# Altium schematic symbol library 一体机V5.SCHLIB: 70 symbols (part 1 of 2)
Pins are listed as number, name and electrical type; pins without a type are passive.

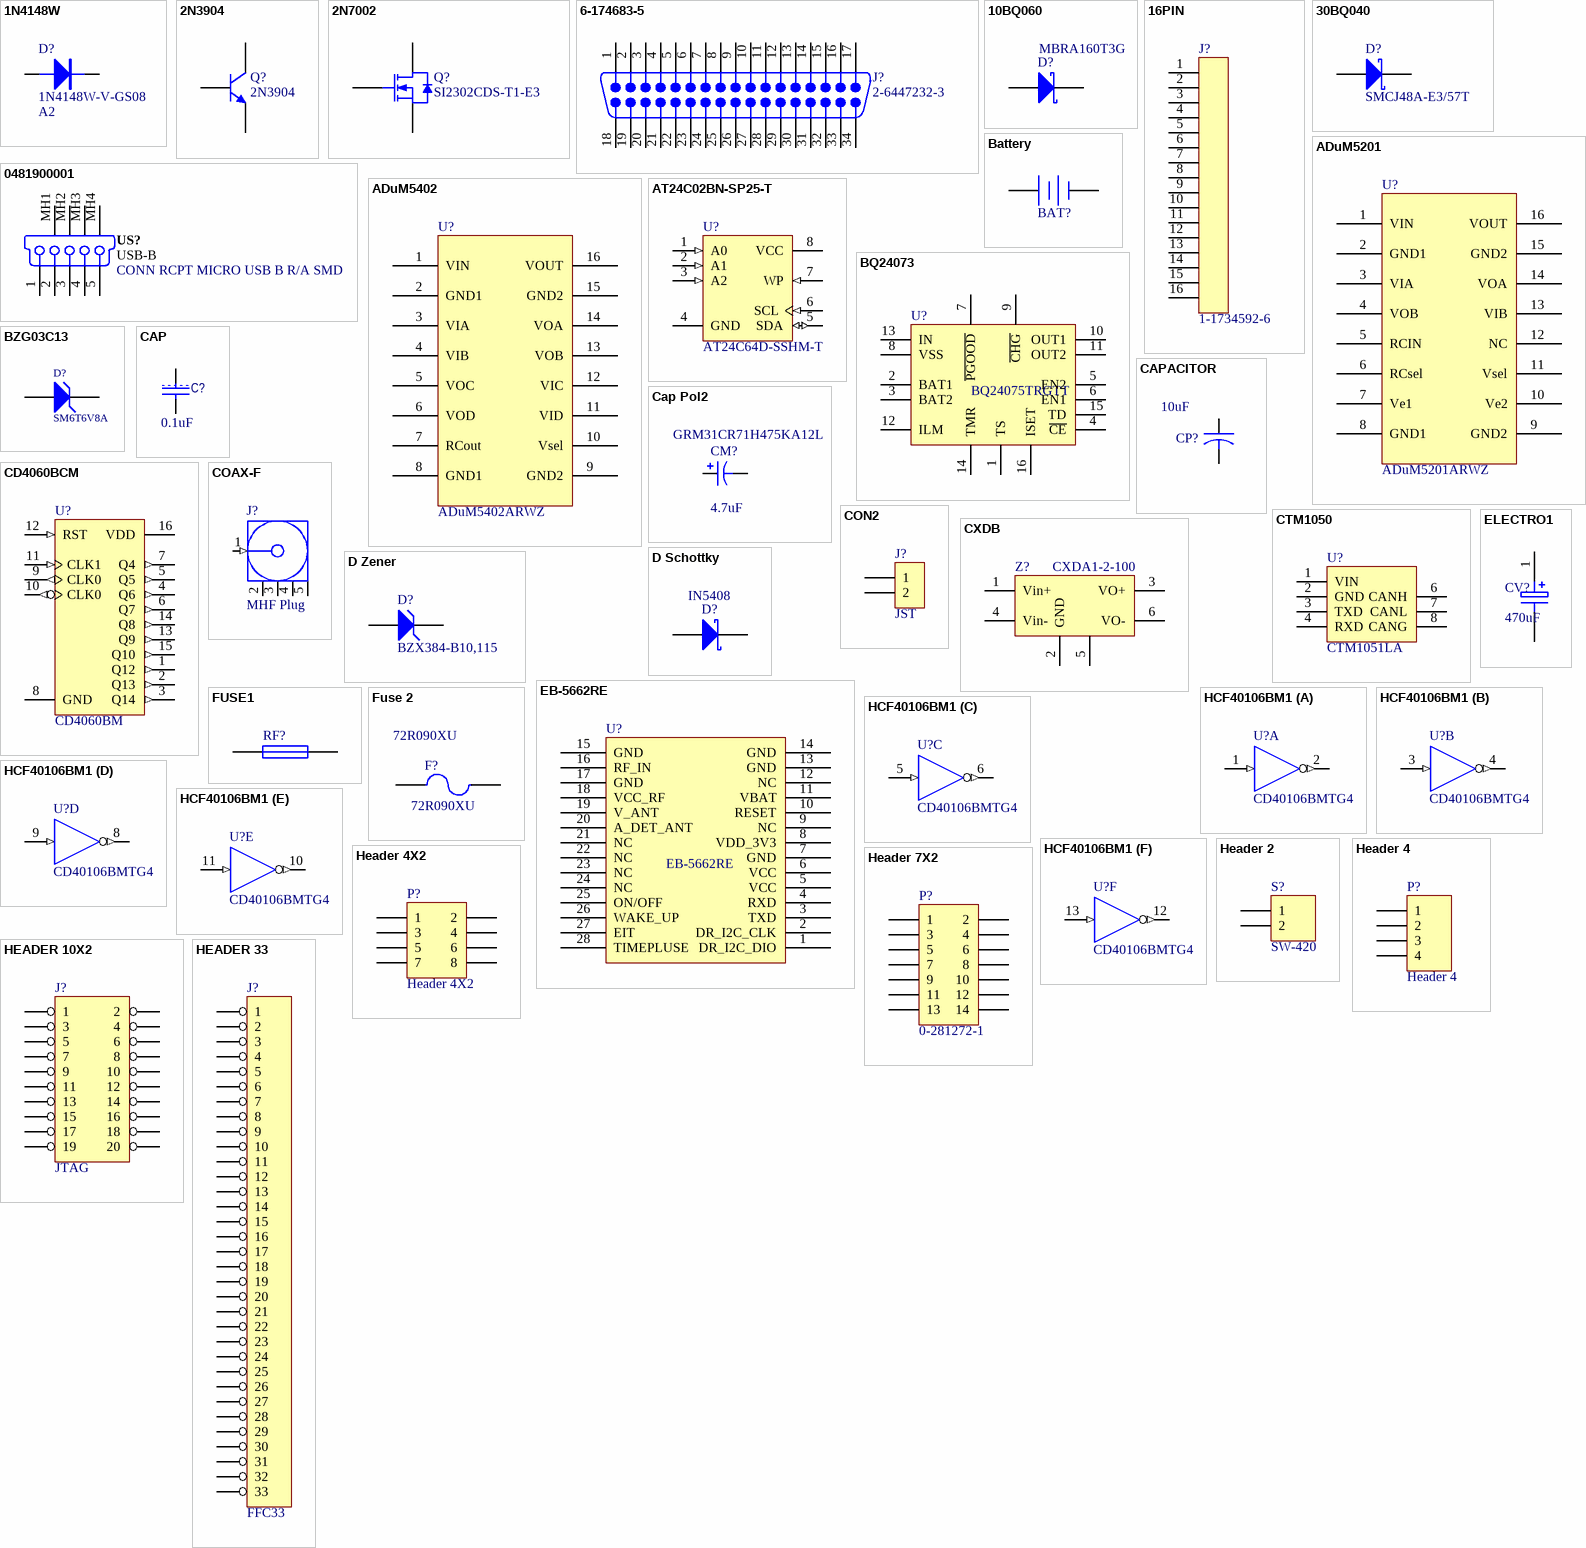
[diagram p0: symbols 1N4148W to HEADER 33]

## 1N4148W
designator D?, comment 1N4148W-V-GS08  value A2
二极管 - 通用，功率，开关 100V Io/150mA; Manufacturer: Vishay Semiconductors; 配置: Single; 工作温度范围: - 65 C to + 150 C; 封装 / 箱体: SOD-123; 封装: Reel; 产品: Switching Diodes; 正向连续电流: 0.15 A; 最大浪涌电流: 0.5 A; 安装风格: SMD/SMT; 恢复时间: 4 ns; 正向电压下降: 1.2 V; 制造商: Vishay; 最大二极管电容: 4 pF; 最大工作温度: + 150 C; 最大功率耗散: 350 mW; 最大反向漏泄电流: 5 uA; 最小工作温度: - 65 C; 标准包装数量: 15000; Supplier 1: Mouser; Supplier Part Number 1: 625-1N4148W-V; Manufacturer Part Number: 1N4148W-V-GS08; RoHS: RoHS Compliant; Category: 二极管 - 通用，功率，开关; Stock 1: 404148; Pricing 1: 1=0.090, 10=0.083, 50=0.072, 100=0.068, 500=0.032, 1000=0.026, 3000=0.021, 9000=0.016, 10000=0.016, 18000=0.014 (USD); 峰值反向电压: 100 V; 产品种类: Switching Diodes; RoHS - 贸泽: Y; Minimum Order Quantity: 1; Reeling: True; ComponentLink1URL: http://www.mouser.com/ds/2/427/1n4148w--240387.pdf; ComponentLink1Description: http://www.mouser.com/ds/2/427/1n4148w--240387.pdf; Description 1: 二极管 - 通用，功率，开关 100V Io/150mA
footprint SOD323 (SOD-323/SC-76; 2 Leads; Body 1.7 x 1.3 mm, (LxW))
simulation model 1N4148 (Model Description)
signal-integrity model 1N4148 (Model Description)
pins: 1 A, 2 K
2 alternate drawings of the same symbol

## 2N3904
designator Q?
NPN General Purpose Amplifier; Published: 8-Jun-2000; LatestRevisionDate: 15-Jan-2003; LatestRevisionNote: PCB Footprint 'BCY-W3/D4.7' replaced; DatasheetVersion: 1997; PackageVersion: Sep-1998; PackageReference: TO-92A; Publisher: Altium Limited; PackageDescription: TO, Flat Index; 3 In-Line, Axial Leads; Body Dia. 4.5mm; Leads 0.51 x 0.48 mm (max); ComponentLink1Description: Manufacturer Link; ComponentLink1URL: http://www.fairchildsemi.com/; ComponentLink2Description: Datasheet; ComponentLink2URL: http://www.fairchildsemi.com/ds/2N%2F2N3904.pdf
footprint SOT23_N (SOT23, 3-Leads, Body 2.9x1.3mm, Pitch 0.95mm, Lead Span 2.3mm, IPC Medium Density)
simulation model 2N3904 (NPN)
signal-integrity model 2N3904
pins: 1 E, 2 B, 3 C

## 2N7002
designator Q?, comment SI2302CDS-T1-E3
MOSFET 20V 2.9A 0.86W 57mohm @ 4.5V; Manufacturer: Vishay / Siliconix; 配置: Single; 封装 / 箱体: SOT-23-3; 封装: Reel; 漏极连续电流: 2.6 A; 闸/源击穿电压: +/- 8 V; 安装风格: SMD/SMT; 功率耗散: 710 mW; 电阻汲极/源极 RDS（导通）: 0.057 Ohms; 晶体管极性: N-Channel; 下降时间: 7 ns; 制造商: Vishay; 最大工作温度: + 150 C; 最小工作温度: - 55 C; 产品种类: N-Channel MOSFETs; 标准包装数量: 3000; 典型关闭延迟时间: 30 ns; Supplier 1: Mouser; Supplier Part Number 1: 781-SI2302CDS-E3; Manufacturer Part Number: SI2302CDS-T1-E3; RoHS: RoHS Compliant; Description 1: MOSFET 20V 2.9A 0.86W 57mohm @ 4.5V; Category: MOSFET; Stock 1: 51301; Pricing 1: 1=0.150, 10=0.140, 100=0.130, 250=0.125, 500=0.120, 1000=0.115, 3000=0.110, 6000=0.105, 12000=0.100 (USD); 汲极/源极击穿电压: 20 V; 上升时间: 7 ns; RoHS - 贸泽: Y; Minimum Order Quantity: 1; Reeling: True; ComponentLink1URL: http://www.vishay.com/doc?68645; ComponentLink1Description: http://www.vishay.com/doc?68645
footprint SOT23_N (SOT23, 3-Leads, Body 2.9x1.3mm, Pitch 0.95mm, Lead Span 2.3mm, IPC Medium Density)
simulation model 2N7002 (SUBCKT)
pins: 1 G, 2 S, 3 D

## 6-174683-5
designator J?, comment 2-6447232-3
插针 汽车连接器 SUPER SEAL 34POS CAP ASY V AU; Manufacturer: TE Connectivity; 位置数量: 34; 产品: Housings; 标准包装数量: 14; Supplier 1: Mouser; Supplier Part Number 1: 571-2-6447232-3; Manufacturer Part Number: 2-6447232-3; RoHS: RoHS Compliant; Description 1: 汽车连接器 SUPER SEAL 34POS CAP ASY V AU; Category: 汽车连接器; Stock 1: 0; Pricing 1: 996=13.16 (USD); 系列: Super Seal; 制造商: TE Connectivity; RoHS - 贸泽: Y; Minimum Order Quantity: 996; Reeling: False; ComponentLink1URL: http://www.te.com/catalog/pn/en/2-6447232-3?RQPN=2-6447232-3; ComponentLink1Description: http://www.te.com/catalog/pn/en/2-6447232-3?RQPN=2-6447232-3
signal-integrity model D Subminiature
footprint 2-6447232-3
pins: 1, 2, 3, 4, 5, 6, 7, 8, 9, 10, 11, 12, 13, 14, 15, 16, 17, 18, 19, 20, 21, 22, 23, 24, 25, 26, 27, 28, 29, 30, 31, 32, 33, 34

## 10BQ060
designator D?, comment MBRA160T3G
肖特基二极管与整流器 60 Volt 1.0 A; Manufacturer: ON Semiconductor; Configuration: Single; Forward Continuous Current: 2.1 A; Max Surge Current: 60 A; Forward Voltage Drop: 0.51 V at 1 A; Maximum Reverse Leakage Current: 200 uA; Peak Reverse Voltage: 60 V; Supplier 1: Mouser; Supplier Part Number 1: 863-MBRA160T3G; Manufacturer Part Number: MBRA160T3G; RoHS: RoHS Compliant; Category: Schottky Diodes & Rectifiers; Stock 1: 21130; Pricing 1: 1=0.756, 10=0.502, 100=0.281, 1000=0.211, 5000=0.181, 10000=0.170, 25000=0.155, 50000=0.150, 100000=0.144 (AUD); Operating Temperature Range: - 55 C to + 125 C; Package / Case: SMA; Packaging: Reel; Product: Schottky Diodes; Mounting Style: SMD/SMT; Product Category: Diodes- Schottky; Standard Pack Qty: 5000; RoHS - Mouser: Y; Minimum Order Quantity: 1; Reeling: True; ComponentLink1URL: http://www.mouser.com/ds/2/308/MBRA160T3-D-95572.pdf; ComponentLink1Description: http://www.mouser.com/ds/2/308/MBRA160T3-D-95572.pdf
simulation model 10BQ060 (DIODE)
signal-integrity model 10BQ060
footprint DO-214AC/SMA (DO-214-AC/SMA; 2 C-Bend Leads; Body 5 x 2.7 mm, inc. leads (LxW))
pins: 1 A, 2 K

## 16PIN
designator J?, comment 1-1734592-6
TE CONNECTIVITY / AMP - 1-1734592-6 - FFC/FPC CONNECTOR, RECEPTACLE 16POS 1ROW; Pitch Spacing: 0.5; No. of Contacts: 16; No. of Rows: 1; FFC / FPC Thickness: 0.3; Contact Termination: Surface Mount Right Angle; Supplier 1: Newark; Supplier Part Number 1: 16R9533; Manufacturer: TE CONNECTIVITY / AMP; Manufacturer Part Number: 1-1734592-6; RoHS: YES; Description 1: TE CONNECTIVITY / AMP - 1-1734592-6 - FFC/FPC CONNECTOR, RECEPTACLE 16POS 1ROW; Stock 1: 219; Pricing 1: 1=0.383, 25=0.383, 50=0.383, 100=0.328, 500=0.328, 1000=0.328, 2500=0.297 (USD); Series: -; Gender: Receptacle; Contact Plating: Gold; ComponentLink1URL: http://www.tycoelectronics.com/commerce/DocumentDelivery/DDEController?Action=srchrtrv&DocNm=1-1773440-6&DocType=Data+Sheet&DocLang=English; ComponentLink1Description: http://www.tycoelectronics.com/commerce/DocumentDelivery/DDEController?Action=srchrtrv&DocNm=1-1773440-6&DocType=Data+Sheet&DocLang=English; ComponentLink2URL: http://www.farnell.com/cad/1650059.pdf; ComponentLink2Description: http://www.farnell.com/cad/1650059.pdf; ComponentLink3URL: http://www.farnell.com/datasheets/1665333.pdf; ComponentLink3Description: http://www.farnell.com/datasheets/1665333.pdf
footprint FFC/SM0.5-2H16
pins: 1, 2, 3, 4, 5, 6, 7, 8, 9, 10, 11, 12, 13, 14, 15, 16

## 30BQ040
designator D?, comment SMCJ48A-E3/57T
TVS 二极管 - 瞬态电压抑制器 1500W 48V Unidirect; Manufacturer: Vishay Semiconductors; 击穿电压: 53.3 V to 58.9 V; 钳位电压: 77.4 V; 尺寸: 6.22 mm W x 7.11 mm L x 2.62 mm H; 封装 / 箱体: DO-214AB; 封装: Reel; 系列: SMCJ; 端接类型: SMD/SMT; 通道: 1 Channel; 峰值浪涌电流: 19.4 A; 制造商: Vishay; 最大工作温度: + 150 C; 最小工作温度: - 55 C; 极性: Unidirectional; 产品种类: Transient Voltage Suppressors; 标准包装数量: 850; 商标名: TransZorb; Supplier 1: Mouser; Supplier Part Number 1: 625-SMCJ48A-E3; Manufacturer Part Number: SMCJ48A-E3/57T; RoHS: RoHS Compliant By Exemption; Description 1: TVS 二极管 - 瞬态电压抑制器 1500W 48V Unidirect; Category: TVS 二极管 - 瞬态电压抑制器; Stock 1: 1923; Pricing 1: 1=0.670, 10=0.580, 100=0.457, 850=0.457, 1000=0.244, 5000=0.206, 10000=0.198, 25000=0.125, 50000=0.122, 100000=0.120 (USD); 工作电压: 48 V; 安装风格: SMD/SMT; 峰值脉冲功率耗散: 1500 W; RoHS - 贸泽: E; Minimum Order Quantity: 1; Reeling: True; ComponentLink1URL: http://www.mouser.com/ds/2/427/smcj50a-241829.pdf; ComponentLink1Description: http://www.mouser.com/ds/2/427/smcj50a-241829.pdf
signal-integrity model 30BQ040
footprint DO-214AB/SMC (DO-214-AB/SMC; 2 C-Bend Leads; Body 7.9 x 5.9 mm, inc. leads (LxW))
pins: 1 A, 2 K

## 0481900001
designator US?, comment USB-B  Description 1: CONN RCPT MICRO USB B R/A SMD
USB On-The-Go (OTG) Mini-B Receptacle, Right Angle, SMT, 0.80mm (.031") Pitch, Solder Tabs with Back Cover, Recessed Type; Manufacturer: TE Connectivity; Manufacturer Part Number: 1981568-1; Max Current: mA; Number of Contacts: 5; Specifications: USB 1.0; Connector type: Right Angle; Mounting Technology: Surface Mount; Status: Unreleased; Category: Connector; Supplier 1: Digi-Key; Supplier Part Number 1: A97800TR-ND; RoHS: RoHS Compliant; Stock 1: 12000; Pricing 1: 1000=0.9108, 2000=0.88044, 3000=0.85008, 5000=0.80758, 10000=0.78936 (USD); Packaging: Tape & Reel (TR); Gender: Receptacle; Mounting Type: Surface Mount, Right Angle, Horizontal; Features: -; Ingress Protection: -; ComponentLink1URL: http://www.te.com/commerce/DocumentDelivery/DDEController?Action=srchrtrv&DocNm=1981568&DocType=Customer+Drawing&DocLang=English; ComponentLink1Description: http://www.te.com/commerce/DocumentDelivery/DDEController?Action=srchrtrv&DocNm=1981568&DocType=Customer+Drawing&DocLang=English
footprint USB/SM0.8-6H5 (Connector; USB2.0, Type B, SM; 5 Position; Right Angle)
pins: 1, 2, 3, 4, 5, MH1, MH2, MH3, MH4

## ADuM5201
designator U?, comment ADuM5201ARWZ
隔离器接口集成电路 Dual-CH w/ Intg DC/DC Converter; Manufacturer: Analog Devices; 封装 / 箱体: SOIC-16; 封装: Tube; 安装风格: SMD/SMT; 通道数量: 2; 线路数量（输入/输出）: 1 /; 制造商: Analog Devices Inc.; 最大工作温度: + 105 C; 最小工作温度: - 40 C; 传播延迟时间: 60 ns; 标准包装数量: 47; 电源电压-最大: 5.5 V; 电源电压-最小: 3 V; Product Status: New at Mouser; Supplier 1: Mouser; Supplier Part Number 1: 584-ADUM5201ARWZ; Manufacturer Part Number: ADUM5201ARWZ; RoHS: RoHS Compliant; Description 1: 隔离器接口集成电路 Dual-CH w/ Intg DC/DC Converter; Category: 隔离器接口集成电路; Stock 1: 213; Pricing 1: 1=9.20, 10=8.28, 25=7.54, 50=7.03, 100=6.80, 250=6.25, 500=5.70, 1000=4.96 (USD); RoHS - 贸泽: Y; Minimum Order Quantity: 1; Reeling: False; ComponentLink1URL: http://www.analog.com/static/imported-files/data_sheets/ADuM5200_5201_5202.pdf; ComponentLink1Description: http://www.analog.com/static/imported-files/data_sheets/ADuM5200_5201_5202.pdf
footprint SOIC16W_N (SOIC, 16-Leads, Body 10.3x7.5mm, Pitch 1.27mm, IPC Low Density)
pins: 1 VIN, 2 GND1, 3 VIA, 4 VOB, 5 RCIN, 6 RCsel, 7 Ve1, 8 GND1, 9 GND2, 10 Ve2, 11 Vsel, 12 NC, 13 VIB, 14 VOA, 15 GND2, 16 VOUT

## ADuM5402
designator U?, comment ADuM5402ARWZ
隔离器接口集成电路 Quad-CH w/ Intg DC/DC Converter; Manufacturer: Analog Devices; 封装 / 箱体: SOIC-16; 封装: Tube; 安装风格: SMD/SMT; 通道数量: 4; 线路数量（输入/输出）: 2 /; 功率耗散: 500 mW; 制造商: Analog Devices Inc.; 最大工作温度: + 105 C; 最小工作温度: - 40 C; 传播延迟时间: 60 ns; 标准包装数量: 47; 电源电压-最大: 5.5 V; 电源电压-最小: 3 V; Product Status: New at Mouser; Supplier 1: Mouser; Supplier Part Number 1: 584-ADUM5402ARWZ; Manufacturer Part Number: ADUM5402ARWZ; RoHS: RoHS Compliant; Description 1: 隔离器接口集成电路 Quad-CH w/ Intg DC/DC Converter; Category: 隔离器接口集成电路; Stock 1: 188; Pricing 1: 1=10.01, 5=9.38, 10=9.10, 25=8.42, 50=7.96, 100=7.74, 250=7.05, 500=6.60, 1000=6.07 (USD); RoHS - 贸泽: Y; Minimum Order Quantity: 1; Reeling: False; ComponentLink1URL: http://www.analog.com/static/imported-files/data_sheets/ADuM5401_5402_5403_5404.pdf; ComponentLink1Description: http://www.analog.com/static/imported-files/data_sheets/ADuM5401_5402_5403_5404.pdf
footprint SOIC16W_N (SOIC, 16-Leads, Body 10.3x7.5mm, Pitch 1.27mm, IPC Low Density)
pins: 1 VIN, 2 GND1, 3 VIA, 4 VIB, 5 VOC, 6 VOD, 7 RCout, 8 GND1, 9 GND2, 10 Vsel, 11 VID, 12 VIC, 13 VOB, 14 VOA, 15 GND2, 16 VOUT

## AT24C02BN-SP25-T
designator U?, comment AT24C64D-SSHM-T
电可擦除可编程只读存储器 64K 2-WIRE 1.7V; Manufacturer: Atmel; Description 1: 电可擦除可编程只读存储器 SERIAL 电可擦除可编程只读存储器 64K 2-WIRE 1.7V; 访问时间: 550 ns; 存储容量: 64 Kbit; 组织: 8192 x 8; 封装 / 箱体: SOIC-8; 封装: Reel; 接口类型: 2-Wire Serial; 安装风格: SMD/SMT; 工作电流: 0.4 mA; 数据保留: 100 yr; 最大时钟频率: 1000 kHz; 最大工作电流: 1 mA; 最大工作温度: + 85 C; 最小工作温度: - 40 C; 工作电源电压: 1.7 V to 5.5 V; 标准包装数量: 4000; 电源电压-最大: 5.5 V; Supplier 1: Mouser; Supplier Part Number 1: 556-AT24C64D-SSHM-T; Manufacturer Part Number: AT24C64D-SSHM-T; RoHS: RoHS Compliant; Category: 电可擦除可编程只读存储器; Stock 1: 1653; Pricing 1: 1=0.580, 10=0.480, 25=0.364, 100=0.329, 1000=0.324, 4000=0.324 (USD); 制造商: Atmel; 电源电压-最小: 1.7 V; RoHS - 贸泽: Y; Minimum Order Quantity: 1; Reeling: True; ComponentLink1URL: http://www.mouser.com/ds/2/36/doc8717-54521.pdf; ComponentLink1Description: http://www.mouser.com/ds/2/36/doc8717-54521.pdf
footprint SOIC8_N (SOIC, 8-Leads, Body 4.9x3.9mm, Pitch 1.27mm, IPC Medium Density)
pins: 1 A0 (in), 2 A1 (in), 3 A2 (in), 4 GND (power), 5 SDA (io), 6 SCL (in), 7 WP (in), 8 VCC (power)

## Battery
designator BAT?, comment 18650/5000mAH/3.7V  (value not drawn)
插针 Multicell Battery
footprint BAT-2
pins: 1 +, 2 -
2 alternate drawings of the same symbol

## BQ24073
designator U?, comment BQ24075TRGTT
电池管理 1.5A USB-Friendly Li Ion Batt Charger; Manufacturer: Texas Instruments; 输出电流: 5 A; 输出电压: 5.5 V; 封装 / 箱体: QFN-16; 封装: Reel; 电荷安全定时器: Yes; 安装风格: SMD/SMT; 电池类型: Li-Ion; 最大功率耗散: 2.3 W; 工作电源电流: 1.5 mA; 工作电源电压: 4.35 V to 26 V; 产品种类: Battery Management; 产品类型: Charge Management; 标准包装数量: 250; Supplier 1: Mouser; Supplier Part Number 1: 595-BQ24075TRGTT; Manufacturer Part Number: BQ24075TRGTT; RoHS: RoHS Compliant; Description 1: 电池管理 1.5A USB-Friendly Li Ion Batt Charger; Category: 电池管理; Stock 1: 641; Pricing 1: 1=2.60, 10=2.33, 25=2.08, 50=1.96, 100=1.40, 250=1.37, 500=1.35, 750=1.32, 1000=1.30 (USD); 系列: BQ24075T; 温度监测: Yes; 制造商: Texas Instruments; RoHS - 贸泽: Y; Minimum Order Quantity: 1; Reeling: True; ComponentLink1URL: http://www.mouser.com/ds/2/405/slus937a-120341.pdf; ComponentLink1Description: http://www.mouser.com/ds/2/405/slus937a-120341.pdf
footprint BQ24073
pins: 1 TS, 2 BAT1, 3 BAT2, 4 ~{CE}, 5 EN2, 6 EN1, 7 ~{PGOOD}, 8 VSS, 9 ~{CHG}, 10 OUT1, 11 OUT2, 12 ILM, 13 IN, 14 TMR, 15 TD, 16 ISET
2 alternate drawings of the same symbol

## BZG03C13
designator D?, comment SM6T6V8A
Zener Diode, 6.2V, 5W; Manufacturer: Microsemi; Revision: 31-Oct-2003
footprint DO214
pins: 1 A, 2 K

## CAP
designator C?, comment value 0.1uF  (hidden comment: C1608X7R1H104K)
多层陶瓷电容器MLCC - SMD/SMT 0603 0.1uF 50volts X7R 10%; Manufacturer: TDK; 尺寸: 0.8 mm W x 1.6 mm L x 0.8 mm H; 工作温度范围: - 55 C to + 125 C; 封装 / 箱体: 0603 (1608 metric); 封装: Reel; 产品: General Type MLCCs; 系列: C; 电压额定值: 50 V; 电容-nF: 100 nF; 电容-pF: 100000 pF; 外壳代码 - in: 0603; 外壳代码 - mm: 1608; 产品种类: Low & Medium Capacitance SMD Ceramic Chip Capacitors; 标准包装数量: 4000; Supplier 1: Mouser; Supplier Part Number 1: 810-C1608X7R1H104K; Manufacturer Part Number: C1608X7R1H104K; RoHS: RoHS Compliant; Description 1: 多层陶瓷电容器MLCC - SMD/SMT 0603 0.1uF 50volts X7R 10%; Category: 多层陶瓷电容器MLCC - SMD/SMT; Stock 1: 224604; Pricing 1: 1=0.160, 50=0.070, 100=0.036, 500=0.019, 1000=0.013, 4000=0.010, 8000=0.009, 12000=0.008, 20000=0.007 (USD); 电容: 0.1 uF; 端接类型: SMD/SMT; 容差: 10 %; 制造商: TDK; 温度系数/代码: X7R; RoHS - 贸泽: Y; Minimum Order Quantity: 1; Reeling: True; ComponentLink1URL: http://www.tdk.com/pdf/general_B11.pdf; ComponentLink1Description: http://www.tdk.com/pdf/general_B11.pdf
simulation model CAP (Capacitor)
signal-integrity model Capacitor
footprint 1608[0603]C
pins: 1, 2

## Cap Pol2
designator CM?, comment GRM31CR71H475KA12L  value 4.7uF
多层陶瓷电容器MLCC - SMD/SMT 4.7uF 50Volts 10%; Manufacturer: Murata Electronics; 尺寸: 1.6 mm W x 3.2 mm L x 1.6 mm H; 工作温度范围: - 55 C to + 125 C; 封装 / 箱体: 1206 (3216 metric); 封装: Reel; 产品: General Type MLCCs; 系列: GRM; 电压额定值: 50 V; 电容-nF: 4700 nF; 外壳代码 - in: 1206; 外壳代码 - mm: 3216; 制造商: Murata; 标准包装数量: 2000; 温度系数/代码: X7R; Supplier 1: Mouser; Supplier Part Number 1: 81-GRM31CR71H475KA2L; Manufacturer Part Number: GRM31CR71H475KA12L; RoHS: RoHS Compliant; Description 1: 多层陶瓷电容器MLCC - SMD/SMT 4.7uF 50Volts 10%; Category: 多层陶瓷电容器MLCC - SMD/SMT; Stock 1: 57549; Pricing 1: 1=0.890, 10=0.561, 100=0.338, 1000=0.309, 2000=0.194, 10000=0.191, 24000=0.187, 50000=0.183 (USD); 电容: 4.7 uF; 端接类型: SMD/SMT; 容差: 10 %; RoHS - 贸泽: Y; Minimum Order Quantity: 1; Reeling: True; ComponentLink1URL: http://www.mouser.com/ds/2/281/product-244798.pdf; ComponentLink1Description: http://www.mouser.com/ds/2/281/product-244798.pdf
footprint 3216[1206]C
simulation model CAP (Capacitor)
signal-integrity model Cap Pol
pins: 1, 2
1 alternate drawing of the same symbol

## CAPACITOR
designator CP?, comment value 10uF  (hidden comment: TAJA106K016RNJ)
钽质电容器-固体SMD 16volts 10uF 10%; Manufacturer: AVX; ESR: 3 Ohms; 产品: Tantalum Solid Standard Grade - Other Various; 产品种类: SMD Tantalum Capacitors; 制造商库存号: A Case; 外壳代码 - in: 1206; 外壳代码 - mm: 3216; 封装 / 箱体: 1206 (3216 metric); 封装: Reel; 尺寸: 1.6 mm W x 3.2 mm L; 工作温度范围: - 55 C to + 125 C; 损耗因数 DF: 8; 标准包装数量: 2000; 漏泄电流: 1.6 uA; 电压额定值: 16 V; 端接类型: SMD/SMT; 系列: TAJ; 高度: 1.8 mm; Category: 钽质电容器-固体SMD; ComponentLink1Description: http://www.avx.com/docs/Catalogs/taj.pdf; ComponentLink1URL: http://www.avx.com/docs/Catalogs/taj.pdf; Description 1: 钽质电容器-固体SMD 16volts 10uF 10%; Manufacturer Part Number: TAJA106K016RNJ; Minimum Order Quantity: 1; Pricing 1: 1=0.600, 100=0.280, 200=0.250, 500=0.221, 1000=0.200, 2000=0.140, 5000=0.131, 10000=0.124, 25000=0.103 (USD); Reeling: True; RoHS - 贸泽: Y; RoHS: RoHS Compliant; Stock 1: 20335; Supplier 1: Mouser; Supplier Part Number 1: 581-TAJA106K016R; 制造商: AVX; 容差: 10 %; 电容: 10 uF
simulation model CAP (Default semiconductor capacitor)
signal-integrity model Tantalum Capacitors (Tantalum)
footprint 3216[1206]CB
pins: 1, 2

## CD4060BCM
designator U?, comment CD4060BM
14-Stage Ripple Carry Binary Counter; Published: 17-Jul-2002; LatestRevisionDate: 13-Apr-2006; LatestRevisionNote: IPC-7351 Footprint Added.; DatasheetVersion: Jan-1999; PackageVersion: 2000; PackageReference: M16A; Publisher: Altium Limited; PackageDescription: 16-Pin Small Outline Integrated Circuit 1.27 mm Pitch; Code_IPC: SOIC127P600-16; ComponentLink1Description: Manufacturer Link; ComponentLink1URL: http://www.fairchildsemi.com/; ComponentLink2Description: Datasheet; ComponentLink2URL: http://www.fairchildsemi.com/ds/CD%2FCD4040BC.pdf
footprint SOIC16_N (SOIC, 16-Leads, Body 9.9x3.9mm, Pitch 1.27mm, IPC Medium Density)
3D model M16A (16-Pin Small Outline Integrated Circuit 1.27 mm Pitch)
pins: 1 Q12 (out), 2 Q13 (out), 3 Q14 (out), 4 Q6 (out), 5 Q5 (out), 6 Q7 (out), 7 Q4 (out), 8 GND (power), 9 CLK0 (out), 10 CLK0 (out), 11 CLK1 (in), 12 RST (in), 13 Q9 (out), 14 Q8 (out), 15 Q10 (out), 16 VDD (power)

## COAX-F
designator J?, comment MHF Plug
插针 RF 连接器 ONBRD IPEX MHF RECEPTACLE; Manufacturer: Taoglas; Manufacturer Part Number: RECE-20279-001E-01; 触点电镀: Gold; 型式: Receptacle (Female); 方向: Right Angle; 封装: Reel; 产品: Connectors; 端接类型: SMD/SMT; 触点材料: Brass; 射频系列: U.FL; Product Status: New at Mouser; Supplier 1: Mouser; Supplier Part Number 1: 960-RECE20279001E01; RoHS: RoHS Compliant; Description 1: RF 连接器 ONBRD IPEX MHF RECEPTACLE; Category: RF 连接器; Stock 1: 8300; Pricing 1: 1=0.900, 50=0.869, 100=0.833, 250=0.810, 500=0.756, 1000=0.698, 5000=0.698 (USD); 制造商: Taoglas; RoHS - 贸泽: Y; Minimum Order Quantity: 1; Reeling: True; ComponentLink1URL: http://www.taoglas.com/images/product_images/original_images/RECE.20279.001E-%20IPEX%20MHFI%20(U.FL)%20Receptacle.pdf; ComponentLink1Description: http://www.taoglas.com/images/product_images/original_images/RECE.20279.001E-%20IPEX%20MHFI%20(U.FL)%20Receptacle.pdf
footprint MHF[MCB3]-V4 (Connector; RF Coaxial, MCB SM; 4 Position; Vertical, Body 3.1x3.0mm (LxW))
pins: 1 Signal (in) "Signal Pin", 2 GND (power), 3 GND (power), 4 GND (power), 5 GND (power)

## CON2
designator J?, comment JST
CON
footprint JST
pins: 1, 2

## CTM1050
designator U?, comment CTM1051LA
插针 集成电路
footprint DIP-7(8)W
pins: 1 VIN, 2 GND, 3 TXD, 4 RXD, 6 CANH, 7 CANL, 8 CANG

## CXDB
designator Z?, comment CXDA1-2-100
插针 Filter; 公司: 中北创新
footprint CXDA1-2-100
pins: 1 Vin+, 2 GND, 3 VO+, 4 Vin-, 5 GND, 6 VO-

## D Schottky
designator D?, comment IN5408
肖特基二极管与整流器 3.0 Amp 60 Volt; Manufacturer: Vishay Semiconductors; Manufacturer Part Number: SS36-E3/57T; 配置: Single; 工作温度范围: - 55 C to + 150 C; 封装 / 箱体: SMC (DO-214AB); 封装: Reel; 产品: Schottky Rectifiers; 正向连续电流: 3 A; 最大浪涌电流: 100 A; 安装风格: SMD/SMT; 正向电压下降: 0.75 V; 制造商: Vishay; 最大反向漏泄电流: 500 uA; 峰值反向电压: 60 V; 标准包装数量: 850; Supplier 1: Mouser; Supplier Part Number 1: 625-SS36-E3; RoHS: RoHS Compliant By Exemption; Description 1: 肖特基二极管与整流器 3.0 Amp 60 Volt; Category: 肖特基二极管与整流器; Stock 1: 481; Pricing 1: 1=0.280, 10=0.250, 100=0.188, 250=0.154, 500=0.144, 850=0.144, 1000=0.139, 2000=0.131 (USD); 产品种类: Schottky Rectifiers; RoHS - 贸泽: E; Minimum Order Quantity: 1; Reeling: True; ComponentLink1URL: http://www.mouser.com/ds/2/427/88751-106389.pdf; ComponentLink1Description: http://www.mouser.com/ds/2/427/88751-106389.pdf
simulation model SKYDIODE (Diode)
signal-integrity model D Schottky
footprint DO-214AB/SMC (DO-214-AB/SMC; 2 C-Bend Leads; Body 7.9 x 5.9 mm, inc. leads (LxW))
pins: 1 A, 2 K

## D Zener
designator D?, comment BZX384-B10,115
稳压二极管 DIODE ZENER 2 PCT; Manufacturer: Vishay Semiconductors; Manufacturer Part Number: BZX384B10-E3-08; Configuration: Single; Power Dissipation: 200 mW; Maximum Reverse Leakage Current: 0.2 uA; Maximum Zener Impedance: 8 Ohms; Voltage Tolerance: 2 %; Zener Voltage: 10 V; Product Status: New at Mouser; Supplier 1: Mouser; Supplier Part Number 1: 78-BZX384B10-E3-08; RoHS: RoHS Compliant; Category: Zener Diodes; Stock 1: 14963; Pricing 1: 1=0.135, 10=0.059, 50=0.058, 100=0.057, 500=0.049, 1000=0.045, 3000=0.043, 9000=0.042, 18000=0.041 (AUD); Package / Case: SOD-323; Packaging: Reel; Product: Zener Diode; Mounting Style: SMD/SMT; Maximum Operating Temperature: + 150 C; Minimum Operating Temperature: - 55 C; Product Category: Schottky Diodes; RoHS - Mouser: Y; Minimum Order Quantity: 1; Reeling: True; ComponentLink1URL: http://www.mouser.com/ds/2/427/bzx384-260632.pdf; ComponentLink1Description: http://www.mouser.com/ds/2/427/bzx384-260632.pdf
footprint SOD323 (SOD-323/SC-76; 2 Leads; Body 1.7 x 1.3 mm, (LxW))
simulation model ZENER (Diode)
signal-integrity model D Zener
pins: 1 A, 2 K

## EB-5662RE
designator U?
GPS模块; 公司: Globalsat
footprint EB-5662RE
pins: 1 DR_I2C_DIO, 2 DR_I2C_CLK, 3 TXD, 4 RXD, 5 VCC, 6 VCC, 7 GND, 8 VDD_3V3, 9 NC, 10 RESET, 11 VBAT, 12 NC, 13 GND, 14 GND, 15 GND, 16 RF_IN, 17 GND, 18 VCC_RF, 19 V_ANT, 20 A_DET_ANT, 21 NC, 22 NC, 23 NC, 24 NC, 25 ON/OFF, 26 WAKE_UP, 27 EIT, 28 TIMEPLUSE
2 alternate drawings of the same symbol

## ELECTRO1
designator CV?, comment value 470uF  (hidden comment: EEU-FM1V471)
插针 铝质电解电容器 - 带引线 470UF 35V ELECT FM RADIAL; Manufacturer: Panasonic Electronic Components; 工作温度范围: - 40 C to + 105 C; 封装: Bulk; 产品: General Purpose Electrolytic Capacitors; 容差: 20 %; 外壳直径: 10 mm; 外壳长度: 20 mm; 引线间隔: 5 mm; 制造商: Panasonic; 标准包装数量: 200; Supplier 1: Mouser; Supplier Part Number 1: 667-EEU-FM1V471; Manufacturer Part Number: EEU-FM1V471; RoHS: RoHS Compliant; Description 1: 铝质电解电容器 - 带引线 470UF 35V ELECT FM RADIAL; Category: 铝质电解电容器 - 带引线; Stock 1: 8429; Pricing 1: 1=0.300, 25=0.281, 100=0.258, 250=0.238, 500=0.230, 1000=0.226, 2000=0.216, 5000=0.200 (USD); 电容: 470 uF; 系列: FM; 端接类型: Radial; 电压额定值: 35 V; RoHS - 贸泽: Y; Minimum Order Quantity: 1; Reeling: False; ComponentLink1URL: http://www.mouser.com/ds/2/315/ABA0000CE108-5973.pdf; ComponentLink1Description: http://www.mouser.com/ds/2/315/ABA0000CE108-5973.pdf
footprint CAPPR5-10x20/H1.1 (Capacitor, Electrolytic, Radial; Body 10 x 20 mm (Dia.xH typ); Pin Spacing 5 mm (typ))
simulation model CAP (Default semiconductor capacitor)
signal-integrity model CAP (Model Description)
pins: 1, 2

## FUSE1
designator RF?, comment 0805L050WR  (value not drawn)
可复位保险丝 PTC 30V POLY SURF MOUNT 0805 .500A; Manufacturer: Littelfuse; Resistance: 850 mOhms; Current Rating (Max): 100 A; Hold Current: 0.5 A; Maximum Voltage: 6 VDC; Trip Current: 1 A; Supplier 1: Mouser; Supplier Part Number 1: 576-0805L050; Manufacturer Part Number: 0805L050WR; RoHS: RoHS Compliant; Category: Resettable Fuses - PPTC; Stock 1: 4103; Pricing 1: 1=3.25, 10=2.61, 50=2.39, 100=2.12, 200=2.07, 500=1.74, 1000=1.49, 3000=1.40, 6000=1.35 (AUD); Dimensions: 2.2 mm L x 1.5 mm W x 1.25 mm  H; Operating Temperature Range: - 40 C to + 85 C; Package / Case: 0805 (2012 metric); Packaging: Reel; Series: 0805L; Termination Style: SMD/SMT; Type: PolyFuse Resettable PTC; Mounting Style: SMD/SMT; Product Category: Resettable PTCs; Standard Pack Qty: 3000; RoHS - Mouser: Y; Minimum Order Quantity: 1; Reeling: True; ComponentLink1URL: http://www.mouser.com/ds/2/240/Littelfuse_0805L-32472.pdf; ComponentLink1Description: http://www.mouser.com/ds/2/240/Littelfuse_0805L-32472.pdf
footprint 2012[0805]F
simulation model FUSE (FUSE:Fuse Subcircuit Parameters)
pins: 1, 2

## Fuse 2
designator F?, comment 72R090XU
Resettable Fuses - PPTC PTC POLYFUSE RADIAL 72V .900A; Manufacturer: Littelfuse; Resistance: 470 mOhms; Type: PolyFuse Resettable PTC; Current Rating - Max: 40 A; Hold Current: 0.9 A; Maximum Voltage: 72 VDC; Trip Current: 1.8 A; Supplier 1: Mouser; Supplier Part Number 1: 576-72R090XU; Manufacturer Part Number: 72R090XU; RoHS: RoHS Compliant; Category: Resettable Fuses - PPTC; Stock 1: 433; Pricing 1: 1=0.621, 10=0.514, 100=0.427, 250=0.389, 500=0.329, 1000=0.290, 2500=0.266, 5000=0.262, 10000=0.243 (AUD); Dimensions: 15.8 mm L x 3.1 mm  H x 11.2 mm D; Operating Temperature Range: - 40 C to + 85 C; Packaging: Bulk; Series: 72R; Termination Style: Radial; Mounting Style: Through Hole; Lead Spacing: 5.1 mm; Product Category: Resettable PTCs; Standard Pack Qty: 500; RoHS - Mouser: Y; Minimum Order Quantity: 1; Reeling: False; ComponentLink1URL: http://www.littelfuse.com/data/en/Data_Sheets/Littelfuse_PTCs_72R.pdf; ComponentLink1Description: http://www.littelfuse.com/data/en/Data_Sheets/Littelfuse_PTCs_72R.pdf
simulation model FUSE (Spice Subcircuit)
footprint FUS-0.2
pins: 1, 2

## HCF40106BM1
designator U?, comment CD40106BMTG4
Hex Schmitt Trigger; Manufacturer: Texas Instruments; Number of Circuits: 6; Logic Family: CD4000; Logic Type: CMOS; High Level Output Current: - 4.2 mA; Low Level Output Current: 4.2 mA; Propagation Delay Time: 280 ns, 140 ns, 120 ns; Supply Voltage - Max: 18 V; Supply Voltage - Min: 3 V; Supplier 1: Mouser; Supplier Part Number 1: 595-CD40106BMTG4; Manufacturer Part Number: CD40106BMTG4; RoHS: RoHS Compliant; Category: Inverters; Stock 1: 1137; Pricing 1: 1=1.30, 10=1.04, 100=0.771, 250=0.771, 1000=0.518, 5000=0.437, 10000=0.421, 25000=0.405 (AUD); Package / Case: SOIC-14; Packaging: Reel; Series: CD40106B; Mounting Style: SMD/SMT; Maximum Operating Temperature: + 125 C; Product Category: Logic - Buffers, Drivers, and Transceivers; Standard Pack Qty: 250; RoHS - Mouser: Y; Minimum Order Quantity: 1; Reeling: True; ComponentLink1URL: http://www.mouser.com/ds/2/405/schs097d-127287.pdf; ComponentLink1Description: http://www.mouser.com/ds/2/405/schs097d-127287.pdf
footprint SOIC14_N (SOIC, 14-Leads, Body 8.7x3.9mm, Pitch 1.27mm, IPC Medium Density)
footprint SO14_L (SOIC, 14-Leads, Body 8.7x3.9mm, Pitch 1.27mm, IPC High Density)
footprint SO14_M (SOIC, 14-Leads, Body 8.7x3.9mm, Pitch 1.27mm, IPC Low Density)
3D model SO14 (14-Pin Small Outline Integrated Circuit 1.27 mm Pitch)
pins on every part: 7 GGND (power) hidden to GND, 14 VBAT (power) hidden to VCC
part A pins: 1 A (in), 2 G (out)
part B pins: 3 B (in), 4 H (out)
part C pins: 5 C (in), 6 I (out)
part D pins: 8 J (out), 9 D (in)
part E pins: 10 K (out), 11 E (in)
part F pins: 12 L (out), 13 F (in)

## Header 2
designator S?, comment SW-420
插针 工业级震动传感器; 公司: 百灵电子; LatestRevisionDate: 17-Jul-2002; LatestRevisionNote: Re-released for DXP Platform.; Publisher: Altium Limited
footprint SW-420
signal-integrity model Connector
pins: 1, 2

## Header 4
designator P?
插针 Header, 4-Pin; LatestRevisionDate: 17-Jul-2002; LatestRevisionNote: Re-released for DXP Platform.; Publisher: Altium Limited
footprint HDR1X4 (Connector; Header; 4 Position)
signal-integrity model Connector
pins: 1, 2, 3, 4

## Header 4X2
designator P?
插针 Header, 4-Pin, Dual row; LatestRevisionDate: 17-Jul-2002; LatestRevisionNote: Re-released for DXP Platform.; Publisher: Altium Limited
footprint HDR2X4 (Connector; Header; 4x2 Position)
signal-integrity model Connector
pins: 1, 2, 3, 4, 5, 6, 7, 8

## Header 7X2
designator P?, comment 0-281272-1
TE CONNECTIVITY 2.54mm / AMP - 0-281272-1 - HEADER STRAIGHT 14WAY; Manufacturer: TE CONNECTIVITY / AMP; Description 1: TE CONNECTIVITY / AMP - 0-281272-1 - HEADER STRAIGHT 14WAY; Product Range: TE - AMP-LATCH Series; Contact Termination: Through Hole Vertical; No. of Contacts: 14; No. of Rows: 2; Pitch Spacing: 2.54; Supplier 1: Farnell; Supplier Part Number 1: 3816266; Manufacturer Part Number: 0-281272-1; RoHS: YES; Stock 1: 25; Pricing 1: 1=6.14 (CNY); Gender: Header; Contact Plating: Gold; Contact Material: Brass; Lead Spacing: 2.54; Termination Method: Solder; ComponentLink1URL: http://www.farnell.com/cad/1656189.pdf; ComponentLink1Description: http://www.farnell.com/cad/1656189.pdf; ComponentLink2URL: http://www.farnell.com/datasheets/55305.pdf; ComponentLink2Description: http://www.farnell.com/datasheets/55305.pdf
footprint HDR2X7 (Connector; Header; 7x2 Position)
signal-integrity model Connector
pins: 1, 2, 3, 4, 5, 6, 7, 8, 9, 10, 11, 12, 13, 14

## HEADER 10X2
designator J?, comment JTAG
插针 CON
footprint IDC20S
pins: 1, 2, 3, 4, 5, 6, 7, 8, 9, 10, 11, 12, 13, 14, 15, 16, 17, 18, 19, 20

## HEADER 33
designator J?, comment FFC33
CON
footprint FFC/SM0.5-2H33 (Connector; FH12 Series; 33 Position; 0.5mm Spaced Bottom Contact)
pins: 1, 2, 3, 4, 5, 6, 7, 8, 9, 10, 11, 12, 13, 14, 15, 16, 17, 18, 19, 20, 21, 22, 23, 24, 25, 26, 27, 28, 29, 30, 31, 32, 33

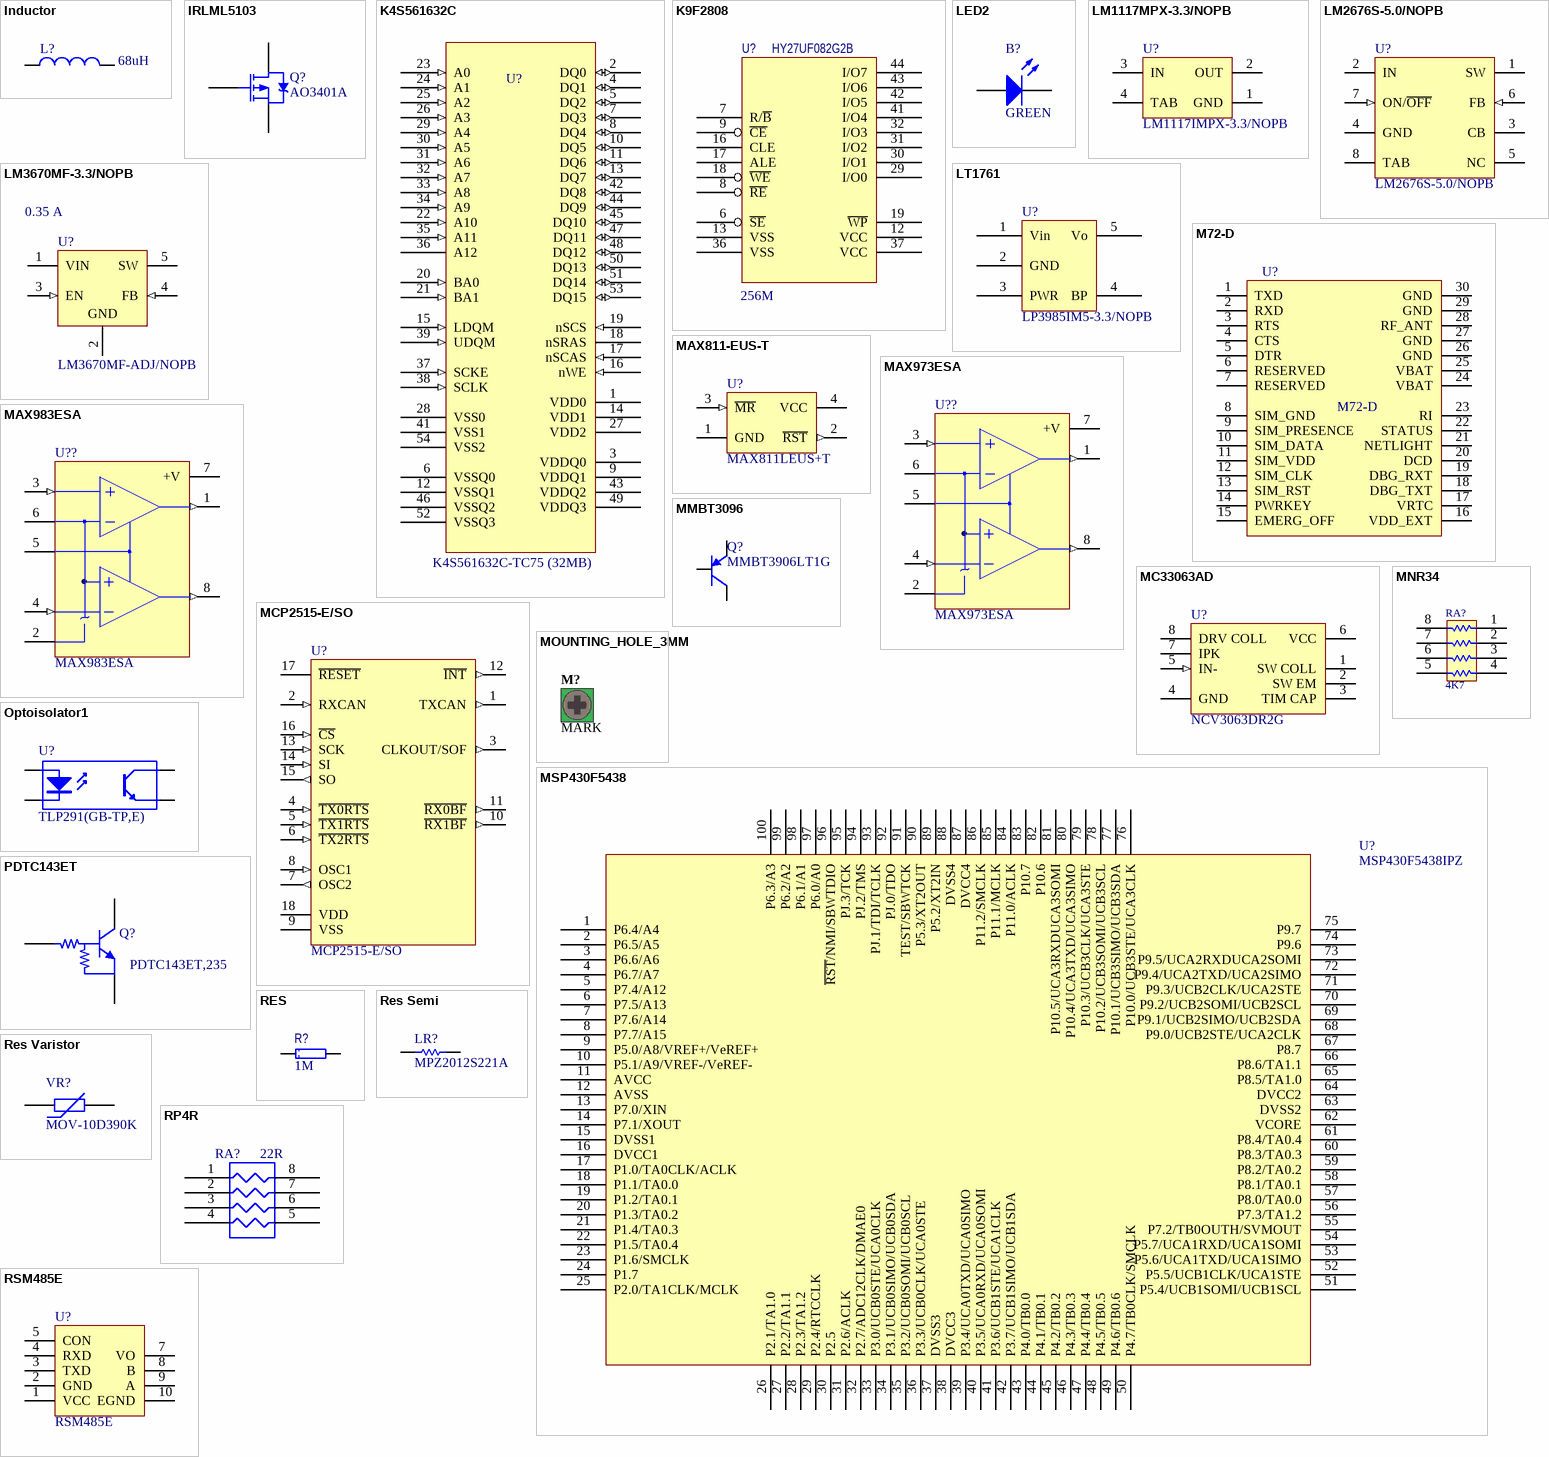
[diagram p1: symbols Inductor to RSM485E]

## Inductor
designator L?, comment value 68uH  (hidden comment: B82477P4683M000)
固定电感器 SMT-INDUCTOR 12X12 68UH 2.35A; Manufacturer: EPCOS; 最大直流电流: 2.45 A; 最大直流电阻: 0.098 Ohms; 产品: SMD Power Inductors; 端接类型: SMD/SMT; 容差: 20 %; Supplier 1: Mouser; Supplier Part Number 1: 871-B82477P4683M000; Manufacturer Part Number: B82477P4683M000; RoHS: RoHS Compliant; Description 1: 固定电感器 SMT-INDUCTOR 12X12 68UH 2.35A; Category: 固定电感器; Stock 1: 1400; Pricing 1: 1=2.55, 50=1.96, 100=1.78, 500=1.62, 1000=1.49, 2000=1.37, 5000=1.26, 10000=1.16 (USD); 电感: 68 uH; 制造商: EPCOS; RoHS - 贸泽: Y; Minimum Order Quantity: 1; Reeling: False; ComponentLink1URL: http://www.mouser.com/ds/2/136/b82477p4-80660.pdf; ComponentLink1Description: http://www.mouser.com/ds/2/136/b82477p4-80660.pdf
simulation model INDUCTOR (Inductor)
signal-integrity model Inductor
footprint INDP125125X85N
pins: 1, 2

## IRLML5103
designator Q?, comment AO3401A
MOSFET P-CH -30V -4.3A SOT23; Manufacturer: Alpha & Omega Semiconductor Inc; FET Type: MOSFET P-Channel, Metal Oxide; FET Feature: Logic Level Gate, 2.5V Drive; Drain to Source Voltage (Vdss): 30V; Current - Continuous Drain (Id) @ 25° C: 4.3A (Ta); Rds On (Max) @ Id, Vgs: 44 mOhm @ 4.3A, 10V; Vgs(th) (Max) @ Id: 1.3V @ 250μA; Gate Charge (Qg) @ Vgs: 12.2nC @ 4.5V; Input Capacitance (Ciss) @ Vds: 1200pF @ 15V; Power - Max: 1.4W; Supplier 1: Digi-Key; Supplier Part Number 1: 785-1001-6-ND; Manufacturer Part Number: AO3401A; RoHS: RoHS Compliant; Description 1: MOSFET P-CH -30V -4.3A SOT23; Category: Discrete Semiconductor Products; Stock 1: 75922; Pricing 1: 1=0.48, 25=0.2792, 100=0.225, 250=0.162, 500=0.1305, 1000=0.10125 (USD); Packaging: Digi-Reel?; Mounting Type: Surface Mount; Package / Case: TO-236-3, SC-59, SOT-23-3; Supplier Device Package: SOT-23-3; ComponentLink1URL: http://www.aosmd.com/res/data_sheets/AO3401A.pdf; ComponentLink1Description: http://www.aosmd.com/res/data_sheets/AO3401A.pdf
footprint SOT23_N (SOT23, 3-Leads, Body 2.9x1.3mm, Pitch 0.95mm, Lead Span 2.3mm, IPC Medium Density)
footprint SOT-23_L (SOT23, 3-Leads, Body 2.9x1.3mm, Pitch 0.95mm, Lead Span 2.3mm, IPC High Density)
footprint SOT-23_M (SOT23, 3-Leads, Body 2.9x1.3mm, Pitch 0.95mm, Lead Span 2.3mm, IPC Low Density)
simulation model IRLML5103 (SUBCKT)
pins: 1 G, 2 S, 3 D

## K4S561632C
designator U?, comment K4S561632C-TC75 (32MB)
IC; Text Field1: 100; Text Field2: 340
footprint TSOP80P1180X120-54N (TSOP, 54-Leads, Body 22.2x10.2mm (max), Pitch 0.80mm, IPC Medium Density)
pins: 1 VDD0 (power), 2 DQ0 (io), 3 VDDQ0 (power), 4 DQ1 (io), 5 DQ2 (io), 6 VSSQ0 (power), 7 DQ3 (io), 8 DQ4 (io), 9 VDDQ1 (power), 10 DQ5 (io), 11 DQ6 (io), 12 VSSQ1 (power), 13 DQ7 (io), 14 VDD1 (power), 15 LDQM (in), 16 nWE (in), 17 nSCAS (in), 18 nSRAS, 19 nSCS (in), 20 BA0 (in), 21 BA1 (in), 22 A10 (in), 23 A0 (in), 24 A1 (in), 25 A2 (in), 26 A3 (in), 27 VDD2 (power), 28 VSS0 (power), 29 A4 (in), 30 A5 (in), 31 A6 (in), 32 A7 (in), 33 A8 (in), 34 A9 (in), 35 A11 (in), 36 A12, 37 SCKE (in), 38 SCLK (in), 39 UDQM (in), 41 VSS1 (power), 42 DQ8 (io), 43 VDDQ2 (power), 44 DQ9 (io), 45 DQ10 (io), 46 VSSQ2 (power), 47 DQ11 (io), 48 DQ12 (io), 49 VDDQ3 (power), 50 DQ13 (io), 51 DQ14 (io), 52 VSSQ3 (power), 53 DQ15 (io), 54 VSS2 (power)

## K9F2808
designator U?, comment HY27UF082G2B  value 256M
IC
footprint TSOP48
pins: 6 ~{SE}, 7 R/~{B}, 8 ~{RE}, 9 ~{CE}, 12 VCC (power), 13 VSS, 16 CLE, 17 ALE, 18 ~{WE}, 19 ~{WP}, 29 I/O0, 30 I/O1, 31 I/O2, 32 I/O3, 36 VSS, 37 VCC (power), 41 I/O4, 42 I/O5, 43 I/O6, 44 I/O7

## LED2
designator B?, comment GREEN
Typical RED, GREEN, YELLOW, AMBER GaAs LED; Published: 8-Jun-2000; LatestRevisionDate: 17-Jul-2002; LatestRevisionNote: Re-released for DXP Platform.; PackageVersion: Feb-2002; PackageReference: 3.2X1.6X1.1; Publisher: Altium Limited; PackageDescription: SM LED; 2 Flat Leads
footprint 0805LED
simulation model LED2 (Diode)
pins: 1 A, 2 K

## LM1117MPX-3.3/NOPB
designator U?, comment LM1117IMPX-3.3/NOPB
800mA Low-Dropout Linear Regulator, 4-pin SOT-223, Pb-Free; PartNumber: LM1117MPX-3.3/NOPB; Manufacturer: National Semiconductor; PackageTopMarking: XYTT*N05A; PowerWise: N; CompType: LDO IC; Published: 1-Mar-2010; DatasheetVersion: Apr-2006; PackageVersion: revB, Apr-2003; PackageReference: MP04A; Publisher: Altium Limited; PackageDescription: Molded SOT-223, 6.50 x 3.56 x 1.6mm Body, 4 Lead, 2.3mm Pitch; Supplier 1: Digi-Key; Supplier Part Number 1: LM1117MPX-3.3TR-ND; Supplier 2: Digi-Key; Supplier Part Number 2: LM1117MPX-3.3CT-ND; Supplier 3: Digi-Key; Supplier Part Number 3: LM1117MPX-3.3DKR-ND; RoHS: Y; PinCount: 4; Code_JEDEC: TO-261-AA; Code_IPC: SOT223-4; ComponentLink1Description: LM1117 Datasheet; ComponentLink1URL: http://www.national.com/ds/LM/LM1117.pdf; ComponentLink2Description: LM1117 Web Page; ComponentLink2URL: http://www.national.com/pf/LM/LM1117.html; ComponentLink3Description: MP04A Package Page; ComponentLink3URL: http://www.national.com/packaging/folders/mp04a.html
footprint SOT223-4N
footprint MP04A_L (SOT223, 4-Leads, Body 6.5x3.5mm, Pitch 2.3mm, Lead Span 7mm, IPC High Density)
footprint MP04A_M (SOT223, 4-Leads, Body 6.5x3.5mm, Pitch 2.3mm, Lead Span 7mm, IPC Low Density)
pins: 1 GND (power), 2 OUT (power), 3 IN (power), 4 TAB (power)

## LM2676S-5.0/NOPB
designator U?
SIMPLE SWITCHER?High Efficiency 3A Step-Down Voltage Regulator, 7-pin TO-263, Pb-Free; Manufacturer: Texas Instruments; Description 1: 直流/直流开关转换器 HIGH EFF 3A STEP- DOWN VLTG REG; 最大输入电压: 40 V; 输出端数量: 1; 工作温度范围: - 40 C to + 85 C; 输出电压: 5 V; 封装 / 箱体: TO-263-7; 封装: Tube; 系列: LM2676; 类型: Step Down; 安装风格: SMD/SMT; 开关频率: 260 KHz; 最小输入电压: 8 V; 最大工作温度: + 125 C; 最小工作温度: - 40 C; 标准包装数量: 45; Product Status: New at Mouser; Supplier 1: Mouser; Supplier Part Number 1: 926-LM2676S-5.0/NOPB; Manufacturer Part Number: LM2676S-5.0/NOPB; RoHS: RoHS Compliant; Category: 直流/直流开关转换器; Stock 1: 11538; Pricing 1: 1=4.05, 10=3.64, 25=3.24, 50=3.05, 100=2.18, 250=2.14, 500=2.10, 750=2.06, 1000=2.02 (USD); 输出电流: 3 A; 制造商: Texas Instruments; RoHS - 贸泽: Y; Minimum Order Quantity: 1; Reeling: False; ComponentLink1URL: http://www.ti.com/litv/SNVS031H; ComponentLink1Description: http://www.ti.com/litv/SNVS031H
footprint TS7B_N (Footprint not found)
pins: 1 SW (power), 2 IN (power), 3 CB, 4 GND (power), 5 NC, 6 FB (in), 7 ON/~{OFF} (in), 8 TAB (power)

## LM3670MF-3.3/NOPB
designator U?, comment LM3670MF-ADJ/NOPB  输出电流: 0.35 A
DC/DC 开关控制器 Mini SD DC-DC Cnvtr; Manufacturer: Texas Instruments; 输入电压: 5.5 V; 输出端数量: 1; 输出电压: 0.7 V to 3.3 V; 封装 / 箱体: SOT-23; 封装: Reel; 系列: LM3670; 安装风格: SMD/SMT; 开关频率: 1000 KHz; 最大工作温度: + 85 C; 最小工作温度: - 40 C; 标准包装数量: 1000; Product Status: New at Mouser; Supplier 1: Mouser; Supplier Part Number 1: 926-LM3670MFADJNOPB; Manufacturer Part Number: LM3670MF-ADJ/NOPB; RoHS: RoHS Compliant; Description 1: DC/DC 开关控制器 Mini SD DC-DC Cnvtr; Category: DC/DC 开关控制器; Stock 1: 2498; Pricing 1: 1=0.730, 10=0.607, 25=0.540, 50=0.509, 100=0.364, 250=0.358, 500=0.351, 750=0.344, 1000=0.338 (USD); 制造商: Texas Instruments; RoHS - 贸泽: Y; Minimum Order Quantity: 1; Reeling: True; ComponentLink1URL: http://www.mouser.com/ds/2/282/snvs250d-123118.pdf; ComponentLink1Description: http://www.mouser.com/ds/2/282/snvs250d-123118.pdf
footprint SOT23-5BN (SOT23, 5-Leads, Body 2.9x1.6mm, Pitch 0.95mm, Lead Span 2.8mm, IPC Medium Density)
pins: 1 VIN (power), 2 GND (power), 3 EN (in), 4 FB (in), 5 SW (power)

## LT1761
designator U?, comment LP3985IM5-3.3/NOPB
低压差稳压器 - LDO 150Ma Low Noise CMOS LDO; Manufacturer: Texas Instruments; 最大输入电压: 6 V; 输出端数量: 1; 输出电流: 0.15 A; 输出类型: Fixed; 输出电压: 3.3 V; 封装 / 箱体: SOT-23; 封装: Reel; 回动电压（最大值）: 0.002 V at 1 mA, 0.035 V at 50 mA, 0.07 V at 100 mA, 0.1 V at 150 mA; 安装风格: SMD/SMT; 电压调节准确度: +/- 2 %; 最大工作温度: + 125 C; 最大功率耗散: 250 mW; 最小工作温度: - 40 C; 标准包装数量: 1000; Product Status: New at Mouser; Supplier 1: Mouser; Supplier Part Number 1: 926-3985IM5-3.3/NOPB; Manufacturer Part Number: LP3985IM5-3.3/NOPB; RoHS: RoHS Compliant; Description 1: 低压差稳压器 - LDO 150Ma Low Noise CMOS LDO; Category: 低压差稳压器 - LDO; Stock 1: 37442; Pricing 1: 1=0.400, 10=0.337, 25=0.300, 50=0.283, 100=0.202, 250=0.199, 500=0.195, 750=0.191, 1000=0.188 (USD); 制造商: Texas Instruments; RoHS - 贸泽: Y; Minimum Order Quantity: 1; Reeling: True; ComponentLink1URL: http://www.mouser.com/ds/2/282/snvs087ab-122675.pdf; ComponentLink1Description: http://www.mouser.com/ds/2/282/snvs087ab-122675.pdf
footprint SOT23-5BN (SOT23, 5-Leads, Body 2.9x1.6mm, Pitch 0.95mm, Lead Span 2.8mm, IPC Medium Density)
pins: 1 Vin, 2 GND, 3 PWR, 4 BP, 5 Vo

## M72-D
designator U?
GSM模块; 公司: 上海移远
footprint M72D
footprint M72D
pins: 1 TXD, 2 RXD, 3 RTS, 4 CTS, 5 DTR, 6 RESERVED, 7 RESERVED, 8 SIM_GND, 9 SIM_PRESENCE, 10 SIM_DATA, 11 SIM_VDD, 12 SIM_CLK, 13 SIM_RST, 14 PWRKEY, 15 EMERG_OFF, 16 VDD_EXT, 17 VRTC, 18 DBG_TXT, 19 DBG_RXT, 20 DCD, 21 NETLIGHT, 22 STATUS, 23 RI, 24 VBAT, 25 VBAT, 26 GND, 27 GND, 28 RF_ANT, 29 GND, 30 GND
2 alternate drawings of the same symbol

## MAX811-EUS-T
designator U?, comment MAX811LEUS+T
监控电路 4-Pin uPower Voltage Monitor; Manufacturer: Maxim Integrated; 输出类型: Active Low, Push-Pull; 封装 / 箱体: SOT-143; 封装: Cut Tape; 系列: MAX811; 人工复位: Not Resettable; 监测电压数: 1; 过电压阈值: 4.72 V; 上电复位延迟（典型值）: 560 ms; 电源电流（典型值）: 6 uA; 欠电压阈值: 4.54 V; 监视器: No Watchdog; 电池备用开关: No Backup; 芯片启用信号: No; 最大工作温度: + 85 C; 最大功率耗散: 320 mW; 最小工作温度: - 40 C; 监测电压: 3 V, 3.3 V, 5 V; 电源电压-最小: 1.2 V; Supplier 1: Mouser; Supplier Part Number 1: 700-MAX811LEUST; Manufacturer Part Number: MAX811LEUS+T; RoHS: RoHS Compliant; Description 1: 监控电路 4-Pin uPower Voltage Monitor; Category: 监控电路; Stock 1: 3290; Pricing 1: 1=2.24, 25=1.69, 50=1.59, 100=1.48, 250=1.46, 500=1.42 (USD); 制造商: Maxim Integrated; 功率失效检测: No; RoHS - 贸泽: Y; Minimum Order Quantity: 1; Reeling: False; ComponentLink1URL: http://www.mouser.com/ds/2/256/MAX811-MAX812-190465.pdf; ComponentLink1Description: http://www.mouser.com/ds/2/256/MAX811-MAX812-190465.pdf
footprint SOT143_N (SOT143, 4-Leads, Body 2.9x1.3mm, Pitch 1.9mm, Lead Span 2.3mm, IPC Medium Density)
pins: 1 GND (power), 2 ~{RST} (out), 3 ~{MR} (in), 4 VCC (power)

## MAX973ESA
designator U??
Ultra-Low-Power, Open Drain, Single/Dual-Supply Comparator; Published: 16-Jan-2001; LatestRevisionDate: 13-Apr-2006; LatestRevisionNote: IPC-7351 Footprint Added.; DatasheetVersion: Nov-1995; PackageReference: NSO8; Publisher: Altium Limited; PackageDescription: 8-Pin Small Outline Integrated Circuit 1.27 mm Pitch; Code_JEDEC: MS-012-AA; Code_IPC: SOIC127P600-8; ComponentLink1Description: Manufacturer Link; ComponentLink1URL: http://www.maxim-ic.com/; ComponentLink2Description: Datasheet; ComponentLink2URL: http://pdfserv.maxim-ic.com/en/ds/MAX971-MAX984.pdf
footprint NSO8_N (SOIC, 8-Leads, Body 4.9x3.9mm, Pitch 1.27mm, IPC Medium Density)
footprint NSO8_L (SOIC, 8-Leads, Body 4.9x3.9mm, Pitch 1.27mm, IPC High Density)
footprint NSO8_M (SOIC, 8-Leads, Body 4.9x3.9mm, Pitch 1.27mm, IPC Low Density)
3D model NSO8 (8-Pin Small Outline Integrated Circuit 1.27 mm Pitch)
pins: 1 OUTA (out), 2 V- (power), 3 INA+ (in), 4 INB- (in), 5 HYST, 6 REF, 7 +V (power), 8 OUTB (out)

## MAX983ESA
designator U??
Ultra-Low-Power, Open Drain, Single/Dual-Supply Comparator; Published: 16-Jan-2001; LatestRevisionDate: 13-Apr-2006; LatestRevisionNote: IPC-7351 Footprint Added.; DatasheetVersion: Nov-1995; PackageReference: NSO8; Publisher: Altium Limited; PackageDescription: 8-Pin Small Outline Integrated Circuit 1.27 mm Pitch; Code_JEDEC: MS-012-AA; Code_IPC: SOIC127P600-8; ComponentLink1Description: Manufacturer Link; ComponentLink1URL: http://www.maxim-ic.com/; ComponentLink2Description: Datasheet; ComponentLink2URL: http://pdfserv.maxim-ic.com/en/ds/MAX971-MAX984.pdf
footprint NSO8_N (SOIC, 8-Leads, Body 4.9x3.9mm, Pitch 1.27mm, IPC Medium Density)
footprint NSO8_L (SOIC, 8-Leads, Body 4.9x3.9mm, Pitch 1.27mm, IPC High Density)
footprint NSO8_M (SOIC, 8-Leads, Body 4.9x3.9mm, Pitch 1.27mm, IPC Low Density)
3D model NSO8 (8-Pin Small Outline Integrated Circuit 1.27 mm Pitch)
pins: 1 OUTA (out), 2 V- (power), 3 INA+ (in), 4 INB- (in), 5 HYST, 6 REF, 7 +V (power), 8 OUTB (out)

## MC33063AD
designator U?, comment NCV3063DR2G
直流/直流开关转换器 1.5 A DCDC SW REG; Manufacturer: ON Semiconductor; 工作温度范围: - 40 C to + 125 C; 封装 / 箱体: SOIC-8; 封装: Reel; 类型: DC/DC Switching - Converters; 安装风格: SMD/SMT; 开关频率: 150 kHz; 产品种类: DC-DC Switching- Controllers; 标准包装数量: 2500; Supplier 1: Mouser; Supplier Part Number 1: 863-NCV3063DR2G; Manufacturer Part Number: NCV3063DR2G; RoHS: RoHS Compliant; Description 1: 直流/直流开关转换器 1.5 A DCDC SW REG; Category: 直流/直流开关转换器; Stock 1: 0; Pricing 1: 1620=0.589, 2000=0.532, 2500=0.532, 5000=0.505, 10000=0.486, 25000=0.470 (USD); 制造商: ON Semiconductor; RoHS - 贸泽: Y; Minimum Order Quantity: 1620; Reeling: True; ComponentLink1URL: http://www.mouser.com/ds/2/308/NCP3063-D-46986.pdf; ComponentLink1Description: http://www.mouser.com/ds/2/308/NCP3063-D-46986.pdf
footprint SOIC8_N (SOIC, 8-Leads, Body 4.9x3.9mm, Pitch 1.27mm, IPC Medium Density)
pins: 1 SW COLL, 2 SW EM, 3 TIM CAP, 4 GND (power), 5 IN- (in), 6 VCC (power), 7 IPK, 8 DRV COLL (oc)

## MCP2515-E/SO
designator U?
网络控制器与处理器 IC W/ SPI Inter 125dC; Manufacturer: Microchip Technology; 数据速率: 1 Mbps; 封装 / 箱体: SOIC-18; 封装: Tube; 产品: Controller Area Network (CAN); 安装风格: SMD/SMT; 电源电流（最大值）: 10 mA; 制造商: Microchip; 最大工作温度: + 125 C; 最小工作温度: - 40 C; 收发器数量: 1; 工作电源电压: 3.3 V, 5 V; 产品种类: Interface; 标准包装数量: 42; 电源电压-最大: 5.5 V; 电源电压-最小: 2.7 V; Supplier 1: Mouser; Supplier Part Number 1: 579-MCP2515-E/SO; Manufacturer Part Number: MCP2515-E/SO; RoHS: RoHS Compliant; Description 1: 网络控制器与处理器 IC W/ SPI Inter 125dC; Category: 网络控制器与处理器 IC; Stock 1: 768; Pricing 1: 1=2.28, 10=2.08, 25=1.73, 100=1.58 (USD); RoHS - 贸泽: Y; Minimum Order Quantity: 1; Reeling: False; ComponentLink1URL: http://www.mouser.com/ds/2/268/21801G-76865.pdf; ComponentLink1Description: http://www.mouser.com/ds/2/268/21801G-76865.pdf
footprint SOIC18W_N (SOIC, 18-Leads, Body 12x7.62mm, Pitch 1.27mm, IPC Medium Density)
pins: 1 TXCAN (out), 2 RXCAN (in), 3 CLKOUT/SOF (out), 4 ~{TX0RTS} (in), 5 ~{TX1RTS} (in), 6 ~{TX2RTS} (in), 7 OSC2 (out), 8 OSC1 (in), 9 VSS (power), 10 ~{RX1BF} (out), 11 ~{RX0BF} (out), 12 ~{INT} (out), 13 SCK (in), 14 SI (in), 15 SO (out), 16 ~{CS} (in), 17 ~{RESET}, 18 VDD (power)

## MMBT3096
designator Q?, comment MMBT3906LT1G
两极晶体管 - BJT 200mA 40V PNP; Manufacturer: ON Semiconductor; 集电极—基极电压 VCBO: - 40 V; 配置: Single; 发射极 - 基极电压 VEBO: 5 V; 封装 / 箱体: SOT-23-3; 封装: Reel; 集电极—射极饱和电压: - 0.4 V; 集电极连续电流: - 0.2 A; 安装风格: SMD/SMT; 直流集电极/Base Gain hfe Min: 60 at 0.1 mA at 1 V; 增益带宽产品fT: 250 MHz; 最大直流电集电极电流: 0.2 A; 最大工作温度: + 150 C; 最大功率耗散: 225 mW; 最小工作温度: - 55 C; 产品种类: Transistors Bipolar- General Purpose; 标准包装数量: 3000; Supplier 1: Mouser; Supplier Part Number 1: 863-MMBT3906LT1G; Manufacturer Part Number: MMBT3906LT1G; RoHS: RoHS Compliant; Description 1: 两极晶体管 - BJT 200mA 40V PNP; Category: 两极晶体管 - BJT; Stock 1: 32950; Pricing 1: 1=0.110, 25=0.099, 100=0.042, 500=0.034, 1000=0.024, 2000=0.020, 3000=0.020, 5000=0.018, 10000=0.015, 25000=0.014 (USD); 集电极—发射极最大电压 VCEO: - 40 V; 晶体管极性: PNP; 制造商: ON Semiconductor; RoHS - 贸泽: Y; Minimum Order Quantity: 1; Reeling: True; ComponentLink1URL: http://www.mouser.com/ds/2/308/MMBT3906LT1-D-112192.pdf; ComponentLink1Description: http://www.mouser.com/ds/2/308/MMBT3906LT1-D-112192.pdf
footprint SOT23_N (SOT23, 3-Leads, Body 2.9x1.3mm, Pitch 0.95mm, Lead Span 2.3mm, IPC Medium Density)
pins: 1, 2, 3
2 alternate drawings of the same symbol

## MNR34
designator RA?, comment 4K7
3216x4 Resistor Array; AEMS Code: 1300330
footprint MNR34
footprint MNR34T
pins: 1, 2, 3, 4, 5, 6, 7, 8

## MOUNTING_HOLE_3MM
designator M?, comment MARK  (no BOM)
Mounting Hole, M3 Screw, Plated, Square Pad; Status: Production; Category: Mounting-Hole
footprint Mark
pins: 1 hidden

## MSP430F5438
designator U?, comment MSP430F5438IPZ
IC MCU 16BIT 256K FLASH 100-LQFP; Manufacturer: Texas Instruments; Manufacturer Part Number: MSP430F5438IPZR; 公司: TI; Core Size: 16-Bit; Speed: 18MHz; Connectivity: I2C, IrDA, LIN, SCI, SPI, UART/USART; Peripherals: Brown-out Detect/Reset, DMA, POR, PWM, WDT; Number of I /O: 87; Program Memory Size: 256KB (256K x 8); RAM Size: 16K x 8; Voltage - Supply (Vcc/Vdd): 2.2 V ~ 3.6 V; Data Converters: A/D 16x12b; Oscillator Type: External; Supplier 1: Digi-Key; Supplier Part Number 1: 296-23859-1-ND; RoHS: RoHS Compliant; Description 1: IC MCU 16BIT 256K FLASH 100-LQFP; Category: Integrated Circuits (ICs); Stock 1: 10552; Pricing 1: 1=9.98, 10=8.978, 25=8.1656, 100=7.3917, 250=6.77252, 500=6.192 (USD); Packaging: Cut Tape (CT); Core Processor: -; Program Memory Type: FLASH; EEPROM Size: -; Operating Temperature: -40°C ~ 85°C; Package / Case: 100-LQFP; ComponentLink1URL: http://www.ti.com/lit/ds/symlink/msp430f5438.pdf; ComponentLink1Description: http://www.ti.com/lit/ds/symlink/msp430f5438.pdf
footprint TQFP100_N (Thin QFP, 100-Leads, Body 14x14mm, Pitch 0.5mm, IPC Medium Density)
pins: 1 P6.4/A4, 2 P6.5/A5, 3 P6.6/A6, 4 P6.7/A7, 5 P7.4/A12, 6 P7.5/A13, 7 P7.6/A14, 8 P7.7/A15, 9 P5.0/A8/VREF+/VeREF+, 10 P5.1/A9/VREF-/VeREF-, 11 AVCC, 12 AVSS, 13 P7.0/XIN, 14 P7.1/XOUT, 15 DVSS1, 16 DVCC1, 17 P1.0/TA0CLK/ACLK, 18 P1.1/TA0.0, 19 P1.2/TA0.1, 20 P1.3/TA0.2, 21 P1.4/TA0.3, 22 P1.5/TA0.4, 23 P1.6/SMCLK, 24 P1.7, 25 P2.0/TA1CLK/MCLK, 26 P2.1/TA1.0, 27 P2.2/TA1.1, 28 P2.3/TA1.2, 29 P2.4/RTCCLK, 30 P2.5, 31 P2.6/ACLK, 32 P2.7/ADC12CLK/DMAE0, 33 P3.0/UCB0STE/UCA0CLK, 34 P3.1/UCB0SIMO/UCB0SDA, 35 P3.2/UCB0SOMI/UCB0SCL, 36 P3.3/UCB0CLK/UCA0STE, 37 DVSS3, 38 DVCC3, 39 P3.4/UCA0TXD/UCA0SIMO, 40 P3.5/UCA0RXD/UCA0SOMI, 41 P3.6/UCB1STE/UCA1CLK, 42 P3.7/UCB1SIMO/UCB1SDA, 43 P4.0/TB0.0, 44 P4.1/TB0.1, 45 P4.2/TB0.2, 46 P4.3/TB0.3, 47 P4.4/TB0.4, 48 P4.5/TB0.5, 49 P4.6/TB0.6, 50 P4.7/TB0CLK/SMCLK, 51 P5.4/UCB1SOMI/UCB1SCL, 52 P5.5/UCB1CLK/UCA1STE, 53 P5.6/UCA1TXD/UCA1SIMO, 54 P5.7/UCA1RXD/UCA1SOMI, 55 P7.2/TB0OUTH/SVMOUT, 56 P7.3/TA1.2, 57 P8.0/TA0.0, 58 P8.1/TA0.1, 59 P8.2/TA0.2, 60 P8.3/TA0.3, 61 P8.4/TA0.4, 62 VCORE, 63 DVSS2, 64 DVCC2, 65 P8.5/TA1.0, 66 P8.6/TA1.1, 67 P8.7, 68 P9.0/UCB2STE/UCA2CLK, 69 P9.1/UCB2SIMO/UCB2SDA, 70 P9.2/UCB2SOMI/UCB2SCL, 71 P9.3/UCB2CLK/UCA2STE, 72 P9.4/UCA2TXD/UCA2SIMO, 73 P9.5/UCA2RXDUCA2SOMI, 74 P9.6, 75 P9.7, 76 P10.0/UCB3STE/UCA3CLK, 77 P10.1/UCB3SIMO/UCB3SDA, 78 P10.2/UCB3SOMI/UCB3SCL, 79 P10.3/UCB3CLK/UCA3STE, 80 P10.4/UCA3TXD/UCA3SIMO, 81 P10.5/UCA3RXDUCA3SOMI, 82 P10.6, 83 P10.7, 84 P11.0/ACLK, 85 P11.1/MCLK, 86 P11.2/SMCLK, 87 DVCC4, 88 DVSS4, 89 P5.2/XT2IN, 90 P5.3/XT2OUT, 91 TEST/SBWTCK, 92 PJ.0/TDO, 93 PJ.1/TDI/TCLK, 94 PJ.2/TMS, 95 PJ.3/TCK, 96 ~{RST}/NMI/SBWTDIO, 97 P6.0/A0, 98 P6.1/A1, 99 P6.2/A2, 100 P6.3/A3

## Optoisolator1
designator U?, comment TLP291(GB-TP,E)
晶体管输出光电耦合器 80Vceo 2500Vrms standard; Manufacturer: Toshiba; Manufacturer Part Number: TLP281(GB-TP,F); 输出设备: NPN Phototransistor; 输出类型: DC; 封装 / 箱体: SOP-4; 封装: Reel; 电流传递比: 600 %; 最大集电极电流: 50 mA; 最大集电极/发射极饱和电压: 0.4 V; 最大集电极/发射极电压: 80 V; 最大下降时间: 3 us; 最大正向二极管电压: 1.3 V; 最大工作温度: + 100 C; 最大功率耗散: 200 mW; 最大反向二极管电压: 5 V; 最大上升时间: 2 us; 最小工作温度: - 55 C; 每芯片的通道数量: 1 Channel; 产品种类: Opto - Photocouplers; 标准包装数量: 2500; Product Status: End of Life; Supplier 1: Mouser; Supplier Part Number 1: 757-TLP281(GB-TP,F); RoHS: RoHS Compliant; Description 1: 晶体管输出光电耦合器 80Vceo 2500Vrms standard; Category: 晶体管输出光电耦合器; Stock 1: 56577; Pricing 1: 1=0.810, 10=0.636, 100=0.412, 1000=0.330, 2500=0.270, 10000=0.259, 25000=0.250 (USD); 绝缘电压: 2500 Vrms; 制造商: Toshiba; 最大输入二极管电流: 50 mA; RoHS - 贸泽: Y; Minimum Order Quantity: 1; Reeling: True; ComponentLink1URL: http://www.mouser.com/ds/2/408/4195-37827.pdf; ComponentLink1Description: http://www.mouser.com/ds/2/408/4195-37827.pdf
footprint SSOP4_N
pins: 1 A "Anode", 2 K "Cathode", 3 E "Emitter", 4 C "Collector"